# EAGLE library part USB (library Modulo)
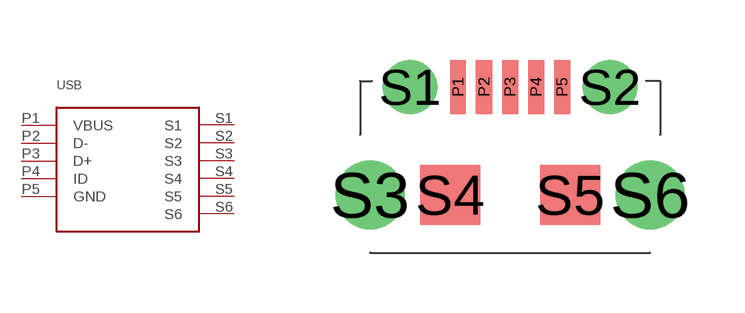
[diagram p14: symbol with the pads of USB-MICROB-FCI; footprint USB-MICROB-FCI]

Designator prefix JP

## USBFCI-MICROB  [USB-MICROB-FCI]
P1  VBUS
P2  D-
P3  D+
P4  ID
P5  GND
S1  S1
S2  S2
S3  S3
S4  S4
S5  S5
S6  S6

## Footprint USB-MICROB-FCI (pad centres in mm)
smd 0.4 x 1.35: P1 -1.3,2.7; P2 -0.65,2.7; P3 0,2.7; P4 0.65,2.7; P5 1.3,2.7
drill 0.85: S1 -2.5,2.7; S2 2.5,2.7
drill 1.15: S3 -3.5,0; S6 3.5,0
smd 1.5 x 1.5: S4 -1.5,0; S5 1.5,0